# Altium integrated library Inductor - Power.IntLib: 264 symbols (part 4 of 5)
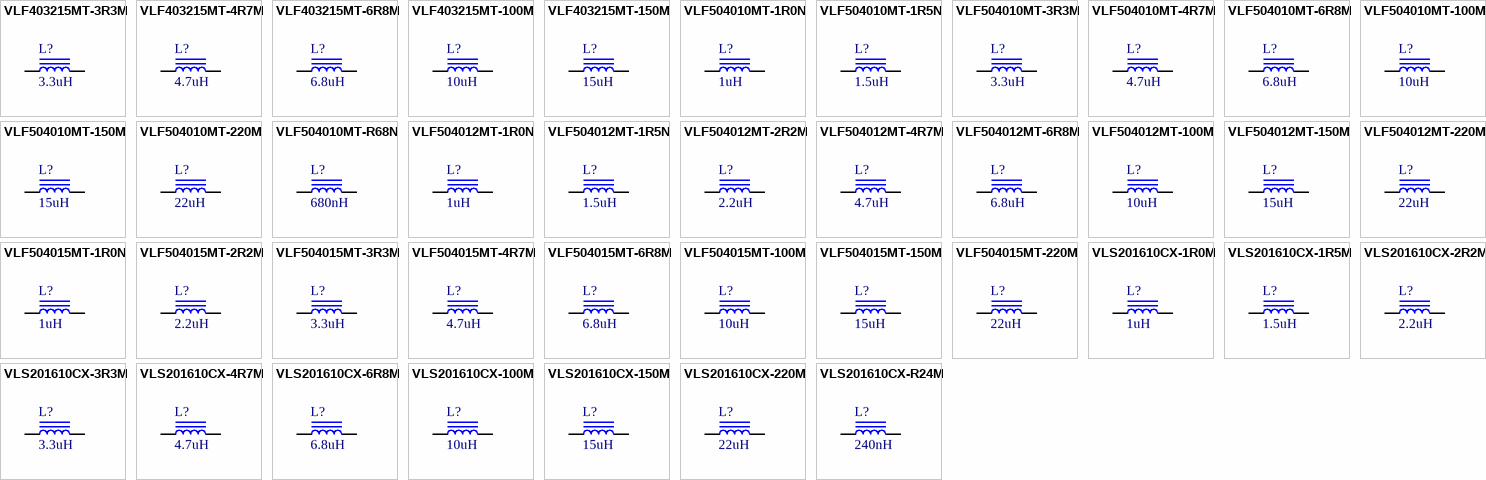
[diagram p9: symbols VLF403215MT-3R3M to VLS201610CX-R24M]

## VLF504012MT-6R8M
designator L?, comment 6.8uH
FIXED IND 6.8UH 1.77A 170 MOHM; Part Number: VLF504012MT-6R8M; Manufacturer: TDK Corporation; Type: Wirewound; Tolerance: 20%; Shielding: Shielded; DC Resistance (DCR): 170 mOhm Max; Value: 6.8uH; PartId: 9650; Supplier 1: Digi-Key; Supplier Part Number 1: 445-17206-2-ND; ComponentLink1Description: Datasheet; ComponentLink1URL: https://product.tdk.com/info/en/catalog/datasheets/inductor_commercial_power_vlf504012mt_en.pdf; ComponentLink2Description: Digi-Key Listing; ComponentLink2URL: https://www.digikey.com/product-detail/en/VLF504012MT-6R8M/445-17206-2-ND/4741721; Price: 0.8146; Device Package: Nonstandard; Series: VLF-M; Inductance: 6.8uH; Current Rating: 1.77A; Q @ Freq: -; Frequency - Self Resonant: -; Operating Temperature: -40C ~ 105C
footprint TDK VLF504012MT
pins: 1, 2

## VLF504012MT-100M
designator L?, comment 10uH
FIXED IND 10UH 1.3A 230 MOHM SMD; Part Number: VLF504012MT-100M; Manufacturer: TDK Corporation; Type: Wirewound; Tolerance: 20%; Shielding: Shielded; DC Resistance (DCR): 230 mOhm Max; Value: 10uH; PartId: 9651; Supplier 1: Digi-Key; Supplier Part Number 1: 445-17190-2-ND; ComponentLink1Description: Datasheet; ComponentLink1URL: https://product.tdk.com/info/en/catalog/datasheets/inductor_commercial_power_vlf504012mt_en.pdf; ComponentLink2Description: Digi-Key Listing; ComponentLink2URL: https://www.digikey.com/product-detail/en/VLF504012MT-100M/445-17190-2-ND/4741722; Price: 0.8146; Device Package: Nonstandard; Series: VLF-M; Inductance: 10uH; Current Rating: 1.3A; Q @ Freq: -; Frequency - Self Resonant: -; Operating Temperature: -40C ~ 105C
footprint TDK VLF504012MT
pins: 1, 2

## VLF504012MT-150M
designator L?, comment 15uH
FIXED IND 15UH 1.08A 320 MOHM; Part Number: VLF504012MT-150M; Manufacturer: TDK Corporation; Type: Wirewound; Tolerance: 20%; Shielding: Shielded; DC Resistance (DCR): 320 mOhm Max; Value: 15uH; PartId: 9648; Supplier 1: Digi-Key; Supplier Part Number 1: 445-17192-2-ND; ComponentLink1Description: Datasheet; ComponentLink1URL: https://product.tdk.com/info/en/catalog/datasheets/inductor_commercial_power_vlf504012mt_en.pdf; ComponentLink2Description: Digi-Key Listing; ComponentLink2URL: https://www.digikey.com/product-detail/en/VLF504012MT-150M/445-17192-2-ND/4741723; Price: 0.8146; Device Package: Nonstandard; Series: VLF-M; Inductance: 15uH; Current Rating: 1.08A; Q @ Freq: -; Frequency - Self Resonant: -; Operating Temperature: -40C ~ 105C
footprint TDK VLF504012MT
pins: 1, 2

## VLF504012MT-220M
designator L?, comment 22uH
FIXED IND 22UH 840MA 580 MOHM; Part Number: VLF504012MT-220M; Manufacturer: TDK Corporation; Type: Wirewound; Tolerance: 20%; Shielding: Shielded; DC Resistance (DCR): 580 mOhm Max; Value: 22uH; PartId: 9654; Supplier 1: Digi-Key; Supplier Part Number 1: 445-17198-2-ND; ComponentLink1Description: Datasheet; ComponentLink1URL: https://product.tdk.com/info/en/catalog/datasheets/inductor_commercial_power_vlf504012mt_en.pdf; ComponentLink2Description: Digi-Key Listing; ComponentLink2URL: https://www.digikey.com/product-detail/en/VLF504012MT-220M/445-17198-2-ND/4741724; Price: 0.8146; Device Package: Nonstandard; Series: VLF-M; Inductance: 22uH; Current Rating: 840mA; Q @ Freq: -; Frequency - Self Resonant: -; Operating Temperature: -40C ~ 105C
footprint TDK VLF504012MT
pins: 1, 2

## VLF504015MT-1R0N
designator L?, comment 1uH
FIXED IND 1UH 3.61A 32 MOHM SMD; Part Number: VLF504015MT-1R0N; Manufacturer: TDK Corporation; Type: Wirewound; Tolerance: 30%; Shielding: Shielded; DC Resistance (DCR): 32 mOhm Max; Value: 1uH; PartId: 9641; Supplier 1: Digi-Key; Supplier Part Number 1: 445-17212-2-ND; ComponentLink1Description: Datasheet; ComponentLink1URL: https://product.tdk.com/info/en/catalog/datasheets/inductor_commercial_power_vlf504015mt_en.pdf; ComponentLink2Description: Digi-Key Listing; ComponentLink2URL: https://www.digikey.com/product-detail/en/VLF504015MT-1R0N/445-17212-2-ND/4741734; Price: 0.8798; Device Package: Nonstandard; Series: VLF-M; Inductance: 1uH; Current Rating: 3.61A; Q @ Freq: -; Frequency - Self Resonant: -; Operating Temperature: -40C ~ 105C
footprint TDK VLF504015MT
pins: 1, 2

## VLF504015MT-2R2M
designator L?, comment 2.2uH
FIXED IND 2.2UH 2.6A 53 MOHM SMD; Part Number: VLF504015MT-2R2M; Manufacturer: TDK Corporation; Type: Wirewound; Tolerance: 20%; Shielding: Shielded; DC Resistance (DCR): 53 mOhm Max; Value: 2.2uH; PartId: 9646; Supplier 1: Digi-Key; Supplier Part Number 1: 445-17218-2-ND; ComponentLink1Description: Datasheet; ComponentLink1URL: https://product.tdk.com/info/en/catalog/datasheets/inductor_commercial_power_vlf504015mt_en.pdf; ComponentLink2Description: Digi-Key Listing; ComponentLink2URL: https://www.digikey.com/product-detail/en/VLF504015MT-2R2M/445-17218-2-ND/4741736; Price: 0.8798; Device Package: Nonstandard; Series: VLF-M; Inductance: 2.2uH; Current Rating: 2.6A; Q @ Freq: -; Frequency - Self Resonant: -; Operating Temperature: -40C ~ 105C
footprint TDK VLF504015MT
pins: 1, 2

## VLF504015MT-3R3M
designator L?, comment 3.3uH
FIXED IND 3.3UH 2.51A 63 MOHM; Part Number: VLF504015MT-3R3M; Manufacturer: TDK Corporation; Type: Wirewound; Tolerance: 20%; Shielding: Shielded; DC Resistance (DCR): 63 mOhm Max; Value: 3.3uH; PartId: 9643; Supplier 1: Digi-Key; Supplier Part Number 1: 445-17220-2-ND; ComponentLink1Description: Datasheet; ComponentLink1URL: https://product.tdk.com/info/en/catalog/datasheets/inductor_commercial_power_vlf504015mt_en.pdf; ComponentLink2Description: Digi-Key Listing; ComponentLink2URL: https://www.digikey.com/product-detail/en/VLF504015MT-3R3M/445-17220-2-ND/4741737; Price: 0.8798; Device Package: Nonstandard; Series: VLF-M; Inductance: 3.3uH; Current Rating: 2.51A; Q @ Freq: -; Frequency - Self Resonant: -; Operating Temperature: -40C ~ 105C
footprint TDK VLF504015MT
pins: 1, 2

## VLF504015MT-4R7M
designator L?, comment 4.7uH
FIXED IND 4.7UH 2.43A 70 MOHM; Part Number: VLF504015MT-4R7M; Manufacturer: TDK Corporation; Type: Wirewound; Tolerance: 20%; Shielding: Shielded; DC Resistance (DCR): 70 mOhm Max; Value: 4.7uH; PartId: 9640; Supplier 1: Digi-Key; Supplier Part Number 1: 445-17222-2-ND; ComponentLink1Description: Datasheet; ComponentLink1URL: https://product.tdk.com/info/en/catalog/datasheets/inductor_commercial_power_vlf504015mt_en.pdf; ComponentLink2Description: Digi-Key Listing; ComponentLink2URL: https://www.digikey.com/product-detail/en/VLF504015MT-4R7M/445-17222-2-ND/4741738; Price: 0.8798; Device Package: Nonstandard; Series: VLF-M; Inductance: 4.7uH; Current Rating: 2.43A; Q @ Freq: -; Frequency - Self Resonant: -; Operating Temperature: -40C ~ 105C
footprint TDK VLF504015MT
pins: 1, 2

## VLF504015MT-6R8M
designator L?, comment 6.8uH
FIXED IND 6.8UH 2A 100 MOHM SMD; Part Number: VLF504015MT-6R8M; Manufacturer: TDK Corporation; Type: Wirewound; Tolerance: 20%; Shielding: Shielded; DC Resistance (DCR): 100 mOhm Max; Value: 6.8uH; PartId: 9642; Supplier 1: Digi-Key; Supplier Part Number 1: 445-17224-2-ND; ComponentLink1Description: Datasheet; ComponentLink1URL: https://product.tdk.com/info/en/catalog/datasheets/inductor_commercial_power_vlf504015mt_en.pdf; ComponentLink2Description: Digi-Key Listing; ComponentLink2URL: https://www.digikey.com/product-detail/en/VLF504015MT-6R8M/445-17224-2-ND/4741739; Price: 0.8798; Device Package: Nonstandard; Series: VLF-M; Inductance: 6.8uH; Current Rating: 2A; Q @ Freq: -; Frequency - Self Resonant: -; Operating Temperature: -40C ~ 105C
footprint TDK VLF504015MT
pins: 1, 2

## VLF504015MT-100M
designator L?, comment 10uH
FIXED IND 10UH 1.58A 140 MOHM; Part Number: VLF504015MT-100M; Manufacturer: TDK Corporation; Type: Wirewound; Tolerance: 20%; Shielding: Shielded; DC Resistance (DCR): 140 mOhm Max; Value: 10uH; PartId: 9639; Supplier 1: Digi-Key; Supplier Part Number 1: 445-17208-2-ND; ComponentLink1Description: Datasheet; ComponentLink1URL: https://product.tdk.com/info/en/catalog/datasheets/inductor_commercial_power_vlf504015mt_en.pdf; ComponentLink2Description: Digi-Key Listing; ComponentLink2URL: https://www.digikey.com/product-detail/en/VLF504015MT-100M/445-17208-2-ND/4741740; Price: 0.8798; Device Package: Nonstandard; Series: VLF-M; Inductance: 10uH; Current Rating: 1.58A; Q @ Freq: -; Frequency - Self Resonant: -; Operating Temperature: -40C ~ 105C
footprint TDK VLF504015MT
pins: 1, 2

## VLF504015MT-150M
designator L?, comment 15uH
FIXED IND 15UH 1.37A 220 MOHM; Part Number: VLF504015MT-150M; Manufacturer: TDK Corporation; Type: Wirewound; Tolerance: 20%; Shielding: Shielded; DC Resistance (DCR): 220 mOhm Max; Value: 15uH; PartId: 9644; Supplier 1: Digi-Key; Supplier Part Number 1: 445-17210-2-ND; ComponentLink1Description: Datasheet; ComponentLink1URL: https://product.tdk.com/info/en/catalog/datasheets/inductor_commercial_power_vlf504015mt_en.pdf; ComponentLink2Description: Digi-Key Listing; ComponentLink2URL: https://www.digikey.com/product-detail/en/VLF504015MT-150M/445-17210-2-ND/4741741; Price: 0.8798; Device Package: Nonstandard; Series: VLF-M; Inductance: 15uH; Current Rating: 1.37A; Q @ Freq: -; Frequency - Self Resonant: -; Operating Temperature: -40C ~ 105C
footprint TDK VLF504015MT
pins: 1, 2

## VLF504015MT-220M
designator L?, comment 22uH
FIXED IND 22UH 1.08A 310 MOHM; Part Number: VLF504015MT-220M; Manufacturer: TDK Corporation; Type: Wirewound; Tolerance: 20%; Shielding: Shielded; DC Resistance (DCR): 310 mOhm Max; Value: 22uH; PartId: 9645; Supplier 1: Digi-Key; Supplier Part Number 1: 445-17216-2-ND; ComponentLink1Description: Datasheet; ComponentLink1URL: https://product.tdk.com/info/en/catalog/datasheets/inductor_commercial_power_vlf504015mt_en.pdf; ComponentLink2Description: Digi-Key Listing; ComponentLink2URL: https://www.digikey.com/product-detail/en/VLF504015MT-220M/445-17216-2-ND/4741742; Price: 0.8798; Device Package: Nonstandard; Series: VLF-M; Inductance: 22uH; Current Rating: 1.08A; Q @ Freq: -; Frequency - Self Resonant: -; Operating Temperature: -40C ~ 105C
footprint TDK VLF504015MT
pins: 1, 2

## VLS201610CX-1R0M
designator L?, comment 1uH
FIXED IND 1UH 2.14A 66 MOHM SMD; Part Number: VLS201610CX-1R0M; Manufacturer: TDK Corporation; Type: Wirewound; Tolerance: 20%; Shielding: Shielded; DC Resistance (DCR): 66 mOhm Max; Value: 1uH; PartId: 9412; Supplier 1: Digi-Key; Supplier Part Number 1: 445-172948-2-ND; ComponentLink1Description: Datasheet; ComponentLink1URL: https://product.tdk.com/info/en/catalog/datasheets/inductor_commercial_power_vls201610cx_en.pdf; ComponentLink2Description: Digi-Key Listing; ComponentLink2URL: https://www.digikey.com/product-detail/en/VLS201610CX-1R0M/445-172948-2-ND/5169753; Price: 0.1549; Device Package: Nonstandard; Series: VLS-CX; Inductance: 1uH; Current Rating: 2.14A; Q @ Freq: -; Frequency - Self Resonant: -; Operating Temperature: -40C ~ 105C
footprint TDK VLS201612CX
pins: 1, 2

## VLS201610CX-1R5M
designator L?, comment 1.5uH
FIXED IND 1.5UH 1.74A 126 MOHM; Part Number: VLS201610CX-1R5M; Manufacturer: TDK Corporation; Type: Wirewound; Tolerance: 20%; Shielding: Shielded; DC Resistance (DCR): 126 mOhm Max; Value: 1.5uH; PartId: 9415; Supplier 1: Digi-Key; Supplier Part Number 1: 445-172949-2-ND; ComponentLink1Description: Datasheet; ComponentLink1URL: https://product.tdk.com/info/en/catalog/datasheets/inductor_commercial_power_vls201610cx_en.pdf; ComponentLink2Description: Digi-Key Listing; ComponentLink2URL: https://www.digikey.com/product-detail/en/VLS201610CX-1R5M/445-172949-2-ND/5169754; Price: 0.1549; Device Package: Nonstandard; Series: VLS-CX; Inductance: 1.5uH; Current Rating: 1.74A; Q @ Freq: -; Frequency - Self Resonant: -; Operating Temperature: -40C ~ 105C
footprint TDK VLS201612CX
pins: 1, 2

## VLS201610CX-2R2M
designator L?, comment 2.2uH
FIXED IND 2.2UH 1.53A 163 MOHM; Part Number: VLS201610CX-2R2M; Manufacturer: TDK Corporation; Type: Wirewound; Tolerance: 20%; Shielding: Shielded; DC Resistance (DCR): 163 mOhm Max; Value: 2.2uH; PartId: 9421; Supplier 1: Digi-Key; Supplier Part Number 1: 445-172951-2-ND; ComponentLink1Description: Datasheet; ComponentLink1URL: https://product.tdk.com/info/en/catalog/datasheets/inductor_commercial_power_vls201610cx_en.pdf; ComponentLink2Description: Digi-Key Listing; ComponentLink2URL: https://www.digikey.com/product-detail/en/VLS201610CX-2R2M/445-172951-2-ND/5169756; Price: 0.1549; Device Package: Nonstandard; Series: VLS-CX; Inductance: 2.2uH; Current Rating: 1.53A; Q @ Freq: -; Frequency - Self Resonant: -; Operating Temperature: -40C ~ 105C
footprint TDK VLS201612CX
pins: 1, 2

## VLS201610CX-3R3M
designator L?, comment 3.3uH
FIXED IND 3.3UH 1.2A 253 MOHM; Part Number: VLS201610CX-3R3M; Manufacturer: TDK Corporation; Type: Wirewound; Tolerance: 20%; Shielding: Shielded; DC Resistance (DCR): 253 mOhm Max; Value: 3.3uH; PartId: 9424; Supplier 1: Digi-Key; Supplier Part Number 1: 445-172952-2-ND; ComponentLink1Description: Datasheet; ComponentLink1URL: https://product.tdk.com/info/en/catalog/datasheets/inductor_commercial_power_vls201610cx_en.pdf; ComponentLink2Description: Digi-Key Listing; ComponentLink2URL: https://www.digikey.com/product-detail/en/VLS201610CX-3R3M/445-172952-2-ND/5169757; Price: 0.1549; Device Package: Nonstandard; Series: VLS-CX; Inductance: 3.3uH; Current Rating: 1.2A; Q @ Freq: -; Frequency - Self Resonant: -; Operating Temperature: -40C ~ 105C
footprint TDK VLS201612CX
pins: 1, 2

## VLS201610CX-4R7M
designator L?, comment 4.7uH
FIXED IND 4.7UH 1A 365 MOHM SMD; Part Number: VLS201610CX-4R7M; Manufacturer: TDK Corporation; Type: Wirewound; Tolerance: 20%; Shielding: Shielded; DC Resistance (DCR): 365 mOhm Max; Value: 4.7uH; PartId: 9406; Supplier 1: Digi-Key; Supplier Part Number 1: 445-172953-2-ND; ComponentLink1Description: Datasheet; ComponentLink1URL: https://product.tdk.com/info/en/catalog/datasheets/inductor_commercial_power_vls201610cx_en.pdf; ComponentLink2Description: Digi-Key Listing; ComponentLink2URL: https://www.digikey.com/product-detail/en/VLS201610CX-4R7M/445-172953-2-ND/5169758; Price: 0.1549; Device Package: Nonstandard; Series: VLS-CX; Inductance: 4.7uH; Current Rating: 1A; Q @ Freq: -; Frequency - Self Resonant: -; Operating Temperature: -40C ~ 105C
footprint TDK VLS201612CX
pins: 1, 2

## VLS201610CX-6R8M
designator L?, comment 6.8uH
FIXED IND 6.8UH 790MA 582 MOHM; Part Number: VLS201610CX-6R8M; Manufacturer: TDK Corporation; Type: Wirewound; Tolerance: 20%; Shielding: Shielded; DC Resistance (DCR): 582 mOhm Max; Value: 6.8uH; PartId: 9427; Supplier 1: Digi-Key; Supplier Part Number 1: 445-172954-2-ND; ComponentLink1Description: Datasheet; ComponentLink1URL: https://product.tdk.com/info/en/catalog/datasheets/inductor_commercial_power_vls201610cx_en.pdf; ComponentLink2Description: Digi-Key Listing; ComponentLink2URL: https://www.digikey.com/product-detail/en/VLS201610CX-6R8M/445-172954-2-ND/5169759; Price: 0.1549; Device Package: Nonstandard; Series: VLS-CX; Inductance: 6.8uH; Current Rating: 790mA; Q @ Freq: -; Frequency - Self Resonant: -; Operating Temperature: -40C ~ 105C
footprint TDK VLS201612CX
pins: 1, 2

## VLS201610CX-100M
designator L?, comment 10uH
FIXED IND 10UH 710MA 732 MOHM; Part Number: VLS201610CX-100M; Manufacturer: TDK Corporation; Type: Wirewound; Tolerance: 20%; Shielding: Shielded; DC Resistance (DCR): 732 mOhm Max; Value: 10uH; PartId: 9403; Supplier 1: Digi-Key; Supplier Part Number 1: 445-172946-2-ND; ComponentLink1Description: Datasheet; ComponentLink1URL: https://product.tdk.com/info/en/catalog/datasheets/inductor_commercial_power_vls201610cx_en.pdf; ComponentLink2Description: Digi-Key Listing; ComponentLink2URL: https://www.digikey.com/product-detail/en/VLS201610CX-100M/445-172946-2-ND/5169751; Price: 0.1549; Device Package: Nonstandard; Series: VLS-CX; Inductance: 10uH; Current Rating: 710mA; Q @ Freq: -; Frequency - Self Resonant: -; Operating Temperature: -40C ~ 105C
footprint TDK VLS201612CX
pins: 1, 2

## VLS201610CX-150M
designator L?, comment 15uH
FIXED IND 15UH 540MA 1.258 OHM; Part Number: VLS201610CX-150M; Manufacturer: TDK Corporation; Type: Wirewound; Tolerance: 20%; Shielding: Shielded; DC Resistance (DCR): 1.258 Ohm Max; Value: 15uH; PartId: 9409; Supplier 1: Digi-Key; Supplier Part Number 1: 445-172947-2-ND; ComponentLink1Description: Datasheet; ComponentLink1URL: https://product.tdk.com/info/en/catalog/datasheets/inductor_commercial_power_vls201610cx_en.pdf; ComponentLink2Description: Digi-Key Listing; ComponentLink2URL: https://www.digikey.com/product-detail/en/VLS201610CX-150M/445-172947-2-ND/5169752; Price: 0.1549; Device Package: Nonstandard; Series: VLS-CX; Inductance: 15uH; Current Rating: 540mA; Q @ Freq: -; Frequency - Self Resonant: -; Operating Temperature: -40C ~ 105C
footprint TDK VLS201612CX
pins: 1, 2

## VLS201610CX-220M
designator L?, comment 22uH
FIXED IND 22UH 480MA 1.582 OHM; Part Number: VLS201610CX-220M; Manufacturer: TDK Corporation; Type: Wirewound; Tolerance: 20%; Shielding: Shielded; DC Resistance (DCR): 1.582 Ohm Max; Value: 22uH; PartId: 9418; Supplier 1: Digi-Key; Supplier Part Number 1: 445-172950-2-ND; ComponentLink1Description: Datasheet; ComponentLink1URL: https://product.tdk.com/info/en/catalog/datasheets/inductor_commercial_power_vls201610cx_en.pdf; ComponentLink2Description: Digi-Key Listing; ComponentLink2URL: https://www.digikey.com/product-detail/en/VLS201610CX-220M/445-172950-2-ND/5169755; Price: 0.1549; Device Package: Nonstandard; Series: VLS-CX; Inductance: 22uH; Current Rating: 480mA; Q @ Freq: -; Frequency - Self Resonant: -; Operating Temperature: -40C ~ 105C
footprint TDK VLS201612CX
pins: 1, 2

## VLS201610CX-R24M
designator L?, comment 240nH
FIXED IND 240NH 3.08A 40 MOHM; Part Number: VLS201610CX-R24M; Manufacturer: TDK Corporation; Type: Wirewound; Tolerance: 20%; Shielding: Shielded; DC Resistance (DCR): 40 mOhm Max; Value: 240nH; PartId: 9460; Supplier 1: Digi-Key; Supplier Part Number 1: 445-172955-2-ND; ComponentLink1Description: Datasheet; ComponentLink1URL: https://product.tdk.com/info/en/catalog/datasheets/inductor_commercial_power_vls201610cx_en.pdf; ComponentLink2Description: Digi-Key Listing; ComponentLink2URL: https://www.digikey.com/product-detail/en/VLS201610CX-R24M/445-172955-2-ND/5169760; Price: 0.1549; Device Package: Nonstandard; Series: VLS-CX; Inductance: 240nH; Current Rating: 3.08A; Q @ Freq: -; Frequency - Self Resonant: -; Operating Temperature: -40C ~ 105C
footprint TDK VLS201612CX
pins: 1, 2

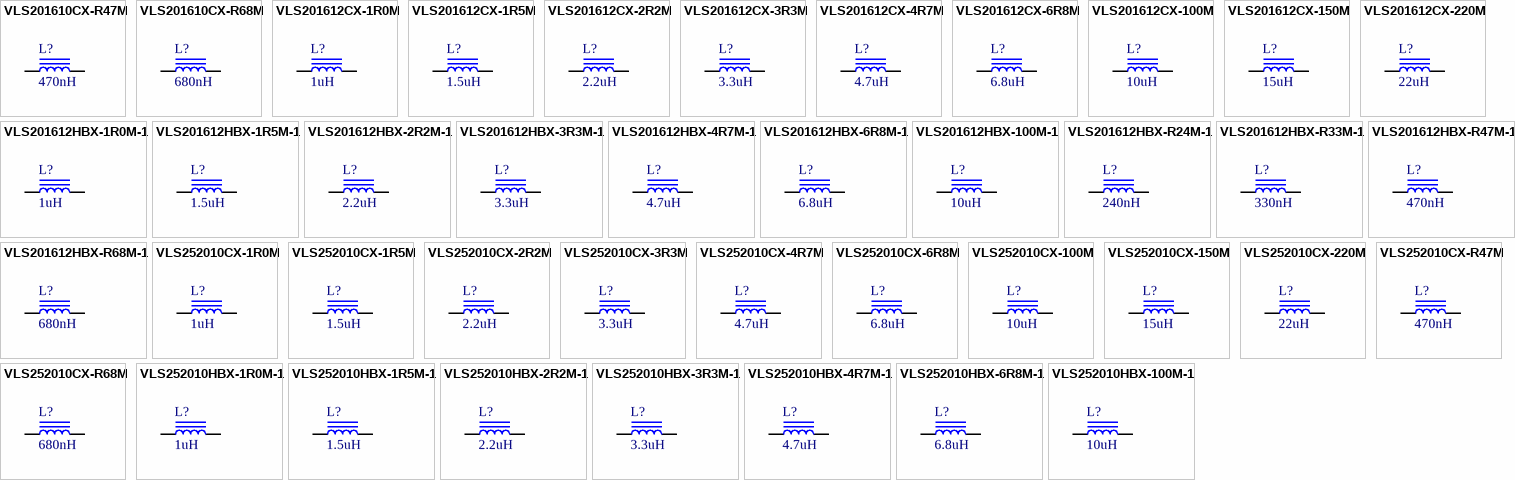
[diagram p5: symbols VLS201610CX-R47M to VLS252010HBX-100M-1]

## VLS201610CX-R47M
designator L?, comment 470nH
FIXED IND 470NH 2.69A 50 MOHM; Part Number: VLS201610CX-R47M; Manufacturer: TDK Corporation; Type: Wirewound; Tolerance: 20%; Shielding: Shielded; DC Resistance (DCR): 50 mOhm Max; Value: 470nH; PartId: 9430; Supplier 1: Digi-Key; Supplier Part Number 1: 445-172956-2-ND; ComponentLink1Description: Datasheet; ComponentLink1URL: https://product.tdk.com/info/en/catalog/datasheets/inductor_commercial_power_vls201610cx_en.pdf; ComponentLink2Description: Digi-Key Listing; ComponentLink2URL: https://www.digikey.com/product-detail/en/VLS201610CX-R47M/445-172956-2-ND/5169761; Price: 0.1549; Device Package: Nonstandard; Series: VLS-CX; Inductance: 470nH; Current Rating: 2.69A; Q @ Freq: -; Frequency - Self Resonant: -; Operating Temperature: -40C ~ 105C
footprint TDK VLS201612CX
pins: 1, 2

## VLS201610CX-R68M
designator L?, comment 680nH
FIXED IND 680NH 2.19A 76 MOHM; Part Number: VLS201610CX-R68M; Manufacturer: TDK Corporation; Type: Wirewound; Tolerance: 20%; Shielding: Shielded; DC Resistance (DCR): 76 mOhm Max; Value: 680nH; PartId: 9433; Supplier 1: Digi-Key; Supplier Part Number 1: 445-172957-2-ND; ComponentLink1Description: Datasheet; ComponentLink1URL: https://product.tdk.com/info/en/catalog/datasheets/inductor_commercial_power_vls201610cx_en.pdf; ComponentLink2Description: Digi-Key Listing; ComponentLink2URL: https://www.digikey.com/product-detail/en/VLS201610CX-R68M/445-172957-2-ND/5169762; Price: 0.1549; Device Package: Nonstandard; Series: VLS-CX; Inductance: 680nH; Current Rating: 2.19A; Q @ Freq: -; Frequency - Self Resonant: -; Operating Temperature: -40C ~ 105C
footprint TDK VLS201612CX
pins: 1, 2

## VLS201612CX-1R0M
designator L?, comment 1uH
FIXED IND 1UH 2.16A 68 MOHM SMD; Part Number: VLS201612CX-1R0M; Manufacturer: TDK Corporation; Type: Wirewound; Tolerance: 20%; Shielding: Shielded; DC Resistance (DCR): 68 mOhm Max; Value: 1uH; PartId: 9442; Supplier 1: Digi-Key; Supplier Part Number 1: 445-172960-2-ND; ComponentLink1Description: Datasheet; ComponentLink1URL: https://product.tdk.com/info/en/catalog/datasheets/inductor_commercial_power_vls201612cx_en.pdf; ComponentLink2Description: Digi-Key Listing; ComponentLink2URL: https://www.digikey.com/product-detail/en/VLS201612CX-1R0M/445-172960-2-ND/5169765; Price: 0.1549; Device Package: Nonstandard; Series: VLS-CX; Inductance: 1uH; Current Rating: 2.16A; Q @ Freq: -; Frequency - Self Resonant: -; Operating Temperature: -40C ~ 105C
footprint TDK VLS201612CX
pins: 1, 2

## VLS201612CX-1R5M
designator L?, comment 1.5uH
FIXED IND 1.5UH 1.9A 89 MOHM SMD; Part Number: VLS201612CX-1R5M; Manufacturer: TDK Corporation; Type: Wirewound; Tolerance: 20%; Shielding: Shielded; DC Resistance (DCR): 89 mOhm Max; Value: 1.5uH; PartId: 9445; Supplier 1: Digi-Key; Supplier Part Number 1: 445-172961-2-ND; ComponentLink1Description: Datasheet; ComponentLink1URL: https://product.tdk.com/info/en/catalog/datasheets/inductor_commercial_power_vls201612cx_en.pdf; ComponentLink2Description: Digi-Key Listing; ComponentLink2URL: https://www.digikey.com/product-detail/en/VLS201612CX-1R5M/445-172961-2-ND/5169766; Price: 0.1549; Device Package: Nonstandard; Series: VLS-CX; Inductance: 1.5uH; Current Rating: 1.9A; Q @ Freq: -; Frequency - Self Resonant: -; Operating Temperature: -40C ~ 105C
footprint TDK VLS201612CX
pins: 1, 2

## VLS201612CX-2R2M
designator L?, comment 2.2uH
FIXED IND 2.2UH 1.5A 140 MOHM; Part Number: VLS201612CX-2R2M; Manufacturer: TDK Corporation; Type: Wirewound; Tolerance: 20%; Shielding: Shielded; DC Resistance (DCR): 140 mOhm Max; Value: 2.2uH; PartId: 9451; Supplier 1: Digi-Key; Supplier Part Number 1: 445-172963-2-ND; ComponentLink1Description: Datasheet; ComponentLink1URL: https://product.tdk.com/info/en/catalog/datasheets/inductor_commercial_power_vls201612cx_en.pdf; ComponentLink2Description: Digi-Key Listing; ComponentLink2URL: https://www.digikey.com/product-detail/en/VLS201612CX-2R2M/445-172963-2-ND/5169768; Price: 0.1549; Device Package: Nonstandard; Series: VLS-CX; Inductance: 2.2uH; Current Rating: 1.5A; Q @ Freq: -; Frequency - Self Resonant: -; Operating Temperature: -40C ~ 105C
footprint TDK VLS201612CX
pins: 1, 2

## VLS201612CX-3R3M
designator L?, comment 3.3uH
FIXED IND 3.3UH 1.37A 170 MOHM; Part Number: VLS201612CX-3R3M; Manufacturer: TDK Corporation; Type: Wirewound; Tolerance: 20%; Shielding: Shielded; DC Resistance (DCR): 170 mOhm Max; Value: 3.3uH; PartId: 9454; Supplier 1: Digi-Key; Supplier Part Number 1: 445-172964-2-ND; ComponentLink1Description: Datasheet; ComponentLink1URL: https://product.tdk.com/info/en/catalog/datasheets/inductor_commercial_power_vls201612cx_en.pdf; ComponentLink2Description: Digi-Key Listing; ComponentLink2URL: https://www.digikey.com/product-detail/en/VLS201612CX-3R3M/445-172964-2-ND/5169769; Price: 0.1549; Device Package: Nonstandard; Series: VLS-CX; Inductance: 3.3uH; Current Rating: 1.37A; Q @ Freq: -; Frequency - Self Resonant: -; Operating Temperature: -40C ~ 105C
footprint TDK VLS201612CX
pins: 1, 2

## VLS201612CX-4R7M
designator L?, comment 4.7uH
FIXED IND 4.7UH 1.12A 252 MOHM; Part Number: VLS201612CX-4R7M; Manufacturer: TDK Corporation; Type: Wirewound; Tolerance: 20%; Shielding: Shielded; DC Resistance (DCR): 252 mOhm Max; Value: 4.7uH; PartId: 9400; Supplier 1: Digi-Key; Supplier Part Number 1: 445-172965-2-ND; ComponentLink1Description: Datasheet; ComponentLink1URL: https://product.tdk.com/info/en/catalog/datasheets/inductor_commercial_power_vls201612cx_en.pdf; ComponentLink2Description: Digi-Key Listing; ComponentLink2URL: https://www.digikey.com/product-detail/en/VLS201612CX-4R7M/445-172965-2-ND/5169770; Price: 0.1549; Device Package: Nonstandard; Series: VLS-CX; Inductance: 4.7uH; Current Rating: 1.12A; Q @ Freq: -; Frequency - Self Resonant: -; Operating Temperature: -40C ~ 105C
footprint TDK VLS201612CX
pins: 1, 2

## VLS201612CX-6R8M
designator L?, comment 6.8uH
FIXED IND 6.8UH 930MA 368 MOHM; Part Number: VLS201612CX-6R8M; Manufacturer: TDK Corporation; Type: Wirewound; Tolerance: 20%; Shielding: Shielded; DC Resistance (DCR): 368 mOhm Max; Value: 6.8uH; PartId: 9457; Supplier 1: Digi-Key; Supplier Part Number 1: 445-172966-2-ND; ComponentLink1Description: Datasheet; ComponentLink1URL: https://product.tdk.com/info/en/catalog/datasheets/inductor_commercial_power_vls201612cx_en.pdf; ComponentLink2Description: Digi-Key Listing; ComponentLink2URL: https://www.digikey.com/product-detail/en/VLS201612CX-6R8M/445-172966-2-ND/5169771; Price: 0.1549; Device Package: Nonstandard; Series: VLS-CX; Inductance: 6.8uH; Current Rating: 930mA; Q @ Freq: -; Frequency - Self Resonant: -; Operating Temperature: -40C ~ 105C
footprint TDK VLS201612CX
pins: 1, 2

## VLS201612CX-100M
designator L?, comment 10uH
FIXED IND 10UH 770MA 540 MOHM; Part Number: VLS201612CX-100M; Manufacturer: TDK Corporation; Type: Wirewound; Tolerance: 20%; Shielding: Shielded; DC Resistance (DCR): 540 mOhm Max; Value: 10uH; PartId: 9436; Supplier 1: Digi-Key; Supplier Part Number 1: 445-172958-2-ND; ComponentLink1Description: Datasheet; ComponentLink1URL: https://product.tdk.com/info/en/catalog/datasheets/inductor_commercial_power_vls201612cx_en.pdf; ComponentLink2Description: Digi-Key Listing; ComponentLink2URL: https://www.digikey.com/product-detail/en/VLS201612CX-100M/445-172958-2-ND/5169763; Price: 0.1549; Device Package: Nonstandard; Series: VLS-CX; Inductance: 10uH; Current Rating: 770mA; Q @ Freq: -; Frequency - Self Resonant: -; Operating Temperature: -40C ~ 105C
footprint TDK VLS201612CX
pins: 1, 2

## VLS201612CX-150M
designator L?, comment 15uH
FIXED IND 15UH 590MA 913 MOHM; Part Number: VLS201612CX-150M; Manufacturer: TDK Corporation; Type: Wirewound; Tolerance: 20%; Shielding: Shielded; DC Resistance (DCR): 913 mOhm Max; Value: 15uH; PartId: 9439; Supplier 1: Digi-Key; Supplier Part Number 1: 445-172959-2-ND; ComponentLink1Description: Datasheet; ComponentLink1URL: https://product.tdk.com/info/en/catalog/datasheets/inductor_commercial_power_vls201612cx_en.pdf; ComponentLink2Description: Digi-Key Listing; ComponentLink2URL: https://www.digikey.com/product-detail/en/VLS201612CX-150M/445-172959-2-ND/5169764; Price: 0.1549; Device Package: Nonstandard; Series: VLS-CX; Inductance: 15uH; Current Rating: 590mA; Q @ Freq: -; Frequency - Self Resonant: -; Operating Temperature: -40C ~ 105C
footprint TDK VLS201612CX
pins: 1, 2

## VLS201612CX-220M
designator L?, comment 22uH
FIXED IND 22UH 480MA 1.32 OHM; Part Number: VLS201612CX-220M; Manufacturer: TDK Corporation; Type: Wirewound; Tolerance: 20%; Shielding: Shielded; DC Resistance (DCR): 1.32 Ohm Max; Value: 22uH; PartId: 9448; Supplier 1: Digi-Key; Supplier Part Number 1: 445-172962-2-ND; ComponentLink1Description: Datasheet; ComponentLink1URL: https://product.tdk.com/info/en/catalog/datasheets/inductor_commercial_power_vls201612cx_en.pdf; ComponentLink2Description: Digi-Key Listing; ComponentLink2URL: https://www.digikey.com/product-detail/en/VLS201612CX-220M/445-172962-2-ND/5169767; Price: 0.1549; Device Package: Nonstandard; Series: VLS-CX; Inductance: 22uH; Current Rating: 480mA; Q @ Freq: -; Frequency - Self Resonant: -; Operating Temperature: -40C ~ 105C
footprint TDK VLS201612CX
pins: 1, 2

## VLS201612HBX-1R0M-1
designator L?, comment 1uH
FIXED IND 1UH 2.7A 72 MOHM SMD; Part Number: VLS201612HBX-1R0M-1; Manufacturer: TDK Corporation; Type: Wirewound; Tolerance: 20%; Shielding: Shielded; DC Resistance (DCR): 72 mOhm Max; Value: 1uH; PartId: 9390; Supplier 1: Digi-Key; Supplier Part Number 1: 445-173010-2-ND; ComponentLink1Description: Datasheet; ComponentLink1URL: https://product.tdk.com/info/en/catalog/datasheets/inductor_commercial_power_vls201612hbx-1_en.pdf; ComponentLink2Description: Digi-Key Listing; ComponentLink2URL: https://www.digikey.com/product-detail/en/VLS201612HBX-1R0M-1/445-173010-2-ND/5147048; Price: 0.258; Device Package: 0806 (2016 Metric); Series: VLS-HBX-1; Inductance: 1uH; Current Rating: 2.7A; Q @ Freq: -; Frequency - Self Resonant: -; Operating Temperature: -40C ~ 105C
footprint TDK VLS201612HBX-1
pins: 1, 2

## VLS201612HBX-1R5M-1
designator L?, comment 1.5uH
FIXED IND 1.5UH 2.16A 109 MOHM; Part Number: VLS201612HBX-1R5M-1; Manufacturer: TDK Corporation; Type: Wirewound; Tolerance: 20%; Shielding: Shielded; DC Resistance (DCR): 109 mOhm Max; Value: 1.5uH; PartId: 9391; Supplier 1: Digi-Key; Supplier Part Number 1: 445-173011-2-ND; ComponentLink1Description: Datasheet; ComponentLink1URL: https://product.tdk.com/info/en/catalog/datasheets/inductor_commercial_power_vls201612hbx-1_en.pdf; ComponentLink2Description: Digi-Key Listing; ComponentLink2URL: https://www.digikey.com/product-detail/en/VLS201612HBX-1R5M-1/445-173011-2-ND/5147049; Price: 0.258; Device Package: 0806 (2016 Metric); Series: VLS-HBX-1; Inductance: 1.5uH; Current Rating: 2.16A; Q @ Freq: -; Frequency - Self Resonant: -; Operating Temperature: -40C ~ 105C
footprint TDK VLS201612HBX-1
pins: 1, 2

## VLS201612HBX-2R2M-1
designator L?, comment 2.2uH
FIXED IND 2.2UH 1.85A 137 MOHM; Part Number: VLS201612HBX-2R2M-1; Manufacturer: TDK Corporation; Type: Wirewound; Tolerance: 20%; Shielding: Shielded; DC Resistance (DCR): 137 mOhm Max; Value: 2.2uH; PartId: 9392; Supplier 1: Digi-Key; Supplier Part Number 1: 445-173012-2-ND; ComponentLink1Description: Datasheet; ComponentLink1URL: https://product.tdk.com/info/en/catalog/datasheets/inductor_commercial_power_vls201612hbx-1_en.pdf; ComponentLink2Description: Digi-Key Listing; ComponentLink2URL: https://www.digikey.com/product-detail/en/VLS201612HBX-2R2M-1/445-173012-2-ND/5147050; Price: 0.258; Device Package: 0806 (2016 Metric); Series: VLS-HBX-1; Inductance: 2.2uH; Current Rating: 1.85A; Q @ Freq: -; Frequency - Self Resonant: -; Operating Temperature: -40C ~ 105C
footprint TDK VLS201612HBX-1
pins: 1, 2

## VLS201612HBX-3R3M-1
designator L?, comment 3.3uH
FIXED IND 3.3UH 1.38A 209 MOHM; Part Number: VLS201612HBX-3R3M-1; Manufacturer: TDK Corporation; Type: Wirewound; Tolerance: 20%; Shielding: Shielded; DC Resistance (DCR): 209 mOhm Max; Value: 3.3uH; PartId: 9393; Supplier 1: Digi-Key; Supplier Part Number 1: 445-173013-2-ND; ComponentLink1Description: Datasheet; ComponentLink1URL: https://product.tdk.com/info/en/catalog/datasheets/inductor_commercial_power_vls201612hbx-1_en.pdf; ComponentLink2Description: Digi-Key Listing; ComponentLink2URL: https://www.digikey.com/product-detail/en/VLS201612HBX-3R3M-1/445-173013-2-ND/5147051; Price: 0.258; Device Package: 0806 (2016 Metric); Series: VLS-HBX-1; Inductance: 3.3uH; Current Rating: 1.38A; Q @ Freq: -; Frequency - Self Resonant: -; Operating Temperature: -40C ~ 105C
footprint TDK VLS201612HBX-1
pins: 1, 2

## VLS201612HBX-4R7M-1
designator L?, comment 4.7uH
FIXED IND 4.7UH 1.2A 312 MOHM; Part Number: VLS201612HBX-4R7M-1; Manufacturer: TDK Corporation; Type: Wirewound; Tolerance: 20%; Shielding: Shielded; DC Resistance (DCR): 312 mOhm Max; Value: 4.7uH; PartId: 9394; Supplier 1: Digi-Key; Supplier Part Number 1: 445-173014-2-ND; ComponentLink1Description: Datasheet; ComponentLink1URL: https://product.tdk.com/info/en/catalog/datasheets/inductor_commercial_power_vls201612hbx-1_en.pdf; ComponentLink2Description: Digi-Key Listing; ComponentLink2URL: https://www.digikey.com/product-detail/en/VLS201612HBX-4R7M-1/445-173014-2-ND/5147052; Price: 0.258; Device Package: 0806 (2016 Metric); Series: VLS-HBX-1; Inductance: 4.7uH; Current Rating: 1.2A; Q @ Freq: -; Frequency - Self Resonant: -; Operating Temperature: -40C ~ 105C
footprint TDK VLS201612HBX-1
pins: 1, 2

## VLS201612HBX-6R8M-1
designator L?, comment 6.8uH
FIXED IND 6.8UH 910MA 468 MOHM; Part Number: VLS201612HBX-6R8M-1; Manufacturer: TDK Corporation; Type: Wirewound; Tolerance: 20%; Shielding: Shielded; DC Resistance (DCR): 468 mOhm Max; Value: 6.8uH; PartId: 9395; Supplier 1: Digi-Key; Supplier Part Number 1: 445-173015-2-ND; ComponentLink1Description: Datasheet; ComponentLink1URL: https://product.tdk.com/info/en/catalog/datasheets/inductor_commercial_power_vls201612hbx-1_en.pdf; ComponentLink2Description: Digi-Key Listing; ComponentLink2URL: https://www.digikey.com/product-detail/en/VLS201612HBX-6R8M-1/445-173015-2-ND/5147053; Price: 0.258; Device Package: 0806 (2016 Metric); Series: VLS-HBX-1; Inductance: 6.8uH; Current Rating: 910mA; Q @ Freq: -; Frequency - Self Resonant: -; Operating Temperature: -40C ~ 105C
footprint TDK VLS201612HBX-1
pins: 1, 2

## VLS201612HBX-100M-1
designator L?, comment 10uH
FIXED IND 10UH 760MA 756 MOHM; Part Number: VLS201612HBX-100M-1; Manufacturer: TDK Corporation; Type: Wirewound; Tolerance: 20%; Shielding: Shielded; DC Resistance (DCR): 756 mOhm Max; Value: 10uH; PartId: 9389; Supplier 1: Digi-Key; Supplier Part Number 1: 445-173009-2-ND; ComponentLink1Description: Datasheet; ComponentLink1URL: https://product.tdk.com/info/en/catalog/datasheets/inductor_commercial_power_vls201612hbx-1_en.pdf; ComponentLink2Description: Digi-Key Listing; ComponentLink2URL: https://www.digikey.com/product-detail/en/VLS201612HBX-100M-1/445-173009-2-ND/5147047; Price: 0.258; Device Package: 0806 (2016 Metric); Series: VLS-HBX-1; Inductance: 10uH; Current Rating: 760mA; Q @ Freq: -; Frequency - Self Resonant: -; Operating Temperature: -40C ~ 105C
footprint TDK VLS201612HBX-1
pins: 1, 2

## VLS201612HBX-R24M-1
designator L?, comment 240nH
FIXED IND 240NH 5.65A 29 MOHM; Part Number: VLS201612HBX-R24M-1; Manufacturer: TDK Corporation; Type: Wirewound; Tolerance: 20%; Shielding: Shielded; DC Resistance (DCR): 29 mOhm Max; Value: 240nH; PartId: 9396; Supplier 1: Digi-Key; Supplier Part Number 1: 445-173016-2-ND; ComponentLink1Description: Datasheet; ComponentLink1URL: https://product.tdk.com/info/en/catalog/datasheets/inductor_commercial_power_vls201612hbx-1_en.pdf; ComponentLink2Description: Digi-Key Listing; ComponentLink2URL: https://www.digikey.com/product-detail/en/VLS201612HBX-R24M-1/445-173016-2-ND/5147054; Price: 0.258; Device Package: 0806 (2016 Metric); Series: VLS-HBX-1; Inductance: 240nH; Current Rating: 5.65A; Q @ Freq: -; Frequency - Self Resonant: -; Operating Temperature: -40C ~ 105C
footprint TDK VLS201612HBX-1
pins: 1, 2

## VLS201612HBX-R33M-1
designator L?, comment 330nH
FIXED IND 330NH 4.34A 35 MOHM; Part Number: VLS201612HBX-R33M-1; Manufacturer: TDK Corporation; Type: Wirewound; Tolerance: 20%; Shielding: Shielded; DC Resistance (DCR): 35 mOhm Max; Value: 330nH; PartId: 9397; Supplier 1: Digi-Key; Supplier Part Number 1: 445-173017-2-ND; ComponentLink1Description: Datasheet; ComponentLink1URL: https://product.tdk.com/info/en/catalog/datasheets/inductor_commercial_power_vls201612hbx-1_en.pdf; ComponentLink2Description: Digi-Key Listing; ComponentLink2URL: https://www.digikey.com/product-detail/en/VLS201612HBX-R33M-1/445-173017-2-ND/5147055; Price: 0.258; Device Package: 0806 (2016 Metric); Series: VLS-HBX-1; Inductance: 330nH; Current Rating: 4.34A; Q @ Freq: -; Frequency - Self Resonant: -; Operating Temperature: -40C ~ 105C
footprint TDK VLS201612HBX-1
pins: 1, 2

## VLS201612HBX-R47M-1
designator L?, comment 470nH
FIXED IND 470NH 3.2A 42 MOHM SMD; Part Number: VLS201612HBX-R47M-1; Manufacturer: TDK Corporation; Type: Wirewound; Tolerance: 20%; Shielding: Shielded; DC Resistance (DCR): 42 mOhm Max; Value: 470nH; PartId: 9398; Supplier 1: Digi-Key; Supplier Part Number 1: 445-173018-2-ND; ComponentLink1Description: Datasheet; ComponentLink1URL: https://product.tdk.com/info/en/catalog/datasheets/inductor_commercial_power_vls201612hbx-1_en.pdf; ComponentLink2Description: Digi-Key Listing; ComponentLink2URL: https://www.digikey.com/product-detail/en/VLS201612HBX-R47M-1/445-173018-2-ND/5147056; Price: 0.258; Device Package: 0806 (2016 Metric); Series: VLS-HBX-1; Inductance: 470nH; Current Rating: 3.2A; Q @ Freq: -; Frequency - Self Resonant: -; Operating Temperature: -40C ~ 105C
footprint TDK VLS201612HBX-1
pins: 1, 2

## VLS201612HBX-R68M-1
designator L?, comment 680nH
FIXED IND 680NH 2.77A 54 MOHM; Part Number: VLS201612HBX-R68M-1; Manufacturer: TDK Corporation; Type: Wirewound; Tolerance: 20%; Shielding: Shielded; DC Resistance (DCR): 54 mOhm Max; Value: 680nH; PartId: 9399; Supplier 1: Digi-Key; Supplier Part Number 1: 445-173019-2-ND; ComponentLink1Description: Datasheet; ComponentLink1URL: https://product.tdk.com/info/en/catalog/datasheets/inductor_commercial_power_vls201612hbx-1_en.pdf; ComponentLink2Description: Digi-Key Listing; ComponentLink2URL: https://www.digikey.com/product-detail/en/VLS201612HBX-R68M-1/445-173019-2-ND/5147057; Price: 0.258; Device Package: 0806 (2016 Metric); Series: VLS-HBX-1; Inductance: 680nH; Current Rating: 2.77A; Q @ Freq: -; Frequency - Self Resonant: -; Operating Temperature: -40C ~ 105C
footprint TDK VLS201612HBX-1
pins: 1, 2

## VLS252010CX-1R0M
designator L?, comment 1uH
FIXED IND 1UH 2.29A 65 MOHM SMD; Part Number: VLS252010CX-1R0M; Manufacturer: TDK Corporation; Type: Wirewound; Tolerance: 20%; Shielding: Shielded; DC Resistance (DCR): 65 mOhm Max; Value: 1uH; PartId: 9466; Supplier 1: Digi-Key; Supplier Part Number 1: 445-172969-2-ND; ComponentLink1Description: Datasheet; ComponentLink1URL: https://product.tdk.com/info/en/catalog/datasheets/inductor_commercial_power_vls252010cx_en.pdf; ComponentLink2Description: Digi-Key Listing; ComponentLink2URL: https://www.digikey.com/product-detail/en/VLS252010CX-1R0M/445-172969-2-ND/5169774; Price: 0.1785; Device Package: Nonstandard; Series: VLS-CX; Inductance: 1uH; Current Rating: 2.29A; Q @ Freq: -; Frequency - Self Resonant: -; Operating Temperature: -40C ~ 105C
footprint TDK VLS252010CX
pins: 1, 2

## VLS252010CX-1R5M
designator L?, comment 1.5uH
FIXED IND 1.5UH 1.9A 86 MOHM SMD; Part Number: VLS252010CX-1R5M; Manufacturer: TDK Corporation; Type: Wirewound; Tolerance: 20%; Shielding: Shielded; DC Resistance (DCR): 86 mOhm Max; Value: 1.5uH; PartId: 9478; Supplier 1: Digi-Key; Supplier Part Number 1: 445-172970-2-ND; ComponentLink1Description: Datasheet; ComponentLink1URL: https://product.tdk.com/info/en/catalog/datasheets/inductor_commercial_power_vls252010cx_en.pdf; ComponentLink2Description: Digi-Key Listing; ComponentLink2URL: https://www.digikey.com/product-detail/en/VLS252010CX-1R5M/445-172970-2-ND/5169775; Price: 0.1785; Device Package: Nonstandard; Series: VLS-CX; Inductance: 1.5uH; Current Rating: 1.9A; Q @ Freq: -; Frequency - Self Resonant: -; Operating Temperature: -40C ~ 105C
footprint TDK VLS252010CX
pins: 1, 2

## VLS252010CX-2R2M
designator L?, comment 2.2uH
FIXED IND 2.2UH 1.58A 126 MOHM; Part Number: VLS252010CX-2R2M; Manufacturer: TDK Corporation; Type: Wirewound; Tolerance: 20%; Shielding: Shielded; DC Resistance (DCR): 126 mOhm Max; Value: 2.2uH; PartId: 9484; Supplier 1: Digi-Key; Supplier Part Number 1: 445-172972-2-ND; ComponentLink1Description: Datasheet; ComponentLink1URL: https://product.tdk.com/info/en/catalog/datasheets/inductor_commercial_power_vls252010cx_en.pdf; ComponentLink2Description: Digi-Key Listing; ComponentLink2URL: https://www.digikey.com/product-detail/en/VLS252010CX-2R2M/445-172972-2-ND/5169777; Price: 0.1785; Device Package: Nonstandard; Series: VLS-CX; Inductance: 2.2uH; Current Rating: 1.58A; Q @ Freq: -; Frequency - Self Resonant: -; Operating Temperature: -40C ~ 105C
footprint TDK VLS252010CX
pins: 1, 2

## VLS252010CX-3R3M
designator L?, comment 3.3uH
FIXED IND 3.3UH 1.25A 186 MOHM; Part Number: VLS252010CX-3R3M; Manufacturer: TDK Corporation; Type: Wirewound; Tolerance: 20%; Shielding: Shielded; DC Resistance (DCR): 186 mOhm Max; Value: 3.3uH; PartId: 9487; Supplier 1: Digi-Key; Supplier Part Number 1: 445-172973-2-ND; ComponentLink1Description: Datasheet; ComponentLink1URL: https://product.tdk.com/info/en/catalog/datasheets/inductor_commercial_power_vls252010cx_en.pdf; ComponentLink2Description: Digi-Key Listing; ComponentLink2URL: https://www.digikey.com/product-detail/en/VLS252010CX-3R3M/445-172973-2-ND/5169778; Price: 0.1785; Device Package: Nonstandard; Series: VLS-CX; Inductance: 3.3uH; Current Rating: 1.25A; Q @ Freq: -; Frequency - Self Resonant: -; Operating Temperature: -40C ~ 105C
footprint TDK VLS252010CX
pins: 1, 2

## VLS252010CX-4R7M
designator L?, comment 4.7uH
FIXED IND 4.7UH 1.11A 235 MOHM; Part Number: VLS252010CX-4R7M; Manufacturer: TDK Corporation; Type: Wirewound; Tolerance: 20%; Shielding: Shielded; DC Resistance (DCR): 235 mOhm Max; Value: 4.7uH; PartId: 9490; Supplier 1: Digi-Key; Supplier Part Number 1: 445-172974-2-ND; ComponentLink1Description: Datasheet; ComponentLink1URL: https://product.tdk.com/info/en/catalog/datasheets/inductor_commercial_power_vls252010cx_en.pdf; ComponentLink2Description: Digi-Key Listing; ComponentLink2URL: https://www.digikey.com/product-detail/en/VLS252010CX-4R7M/445-172974-2-ND/5169779; Price: 0.1785; Device Package: Nonstandard; Series: VLS-CX; Inductance: 4.7uH; Current Rating: 1.11A; Q @ Freq: -; Frequency - Self Resonant: -; Operating Temperature: -40C ~ 105C
footprint TDK VLS252010CX
pins: 1, 2

## VLS252010CX-6R8M
designator L?, comment 6.8uH
FIXED IND 6.8UH 860MA 372 MOHM; Part Number: VLS252010CX-6R8M; Manufacturer: TDK Corporation; Type: Wirewound; Tolerance: 20%; Shielding: Shielded; DC Resistance (DCR): 372 mOhm Max; Value: 6.8uH; PartId: 9493; Supplier 1: Digi-Key; Supplier Part Number 1: 445-172975-2-ND; ComponentLink1Description: Datasheet; ComponentLink1URL: https://product.tdk.com/info/en/catalog/datasheets/inductor_commercial_power_vls252010cx_en.pdf; ComponentLink2Description: Digi-Key Listing; ComponentLink2URL: https://www.digikey.com/product-detail/en/VLS252010CX-6R8M/445-172975-2-ND/5169780; Price: 0.1785; Device Package: Nonstandard; Series: VLS-CX; Inductance: 6.8uH; Current Rating: 860mA; Q @ Freq: -; Frequency - Self Resonant: -; Operating Temperature: -40C ~ 105C
footprint TDK VLS252010CX
pins: 1, 2

## VLS252010CX-100M
designator L?, comment 10uH
FIXED IND 10UH 710MA 580 MOHM; Part Number: VLS252010CX-100M; Manufacturer: TDK Corporation; Type: Wirewound; Tolerance: 20%; Shielding: Shielded; DC Resistance (DCR): 580 mOhm Max; Value: 10uH; PartId: 9472; Supplier 1: Digi-Key; Supplier Part Number 1: 445-172967-2-ND; ComponentLink1Description: Datasheet; ComponentLink1URL: https://product.tdk.com/info/en/catalog/datasheets/inductor_commercial_power_vls252010cx_en.pdf; ComponentLink2Description: Digi-Key Listing; ComponentLink2URL: https://www.digikey.com/product-detail/en/VLS252010CX-100M/445-172967-2-ND/5169772; Price: 0.1785; Device Package: Nonstandard; Series: VLS-CX; Inductance: 10uH; Current Rating: 710mA; Q @ Freq: -; Frequency - Self Resonant: -; Operating Temperature: -40C ~ 105C
footprint TDK VLS252010CX
pins: 1, 2

## VLS252010CX-150M
designator L?, comment 15uH
FIXED IND 15UH 560MA 914 MOHM; Part Number: VLS252010CX-150M; Manufacturer: TDK Corporation; Type: Wirewound; Tolerance: 20%; Shielding: Shielded; DC Resistance (DCR): 914 mOhm Max; Value: 15uH; PartId: 9475; Supplier 1: Digi-Key; Supplier Part Number 1: 445-172968-2-ND; ComponentLink1Description: Datasheet; ComponentLink1URL: https://product.tdk.com/info/en/catalog/datasheets/inductor_commercial_power_vls252010cx_en.pdf; ComponentLink2Description: Digi-Key Listing; ComponentLink2URL: https://www.digikey.com/product-detail/en/VLS252010CX-150M/445-172968-2-ND/5169773; Price: 0.1785; Device Package: Nonstandard; Series: VLS-CX; Inductance: 15uH; Current Rating: 560mA; Q @ Freq: -; Frequency - Self Resonant: -; Operating Temperature: -40C ~ 105C
footprint TDK VLS252010CX
pins: 1, 2

## VLS252010CX-220M
designator L?, comment 22uH
FIXED IND 22UH 450MA 1.364 OHM; Part Number: VLS252010CX-220M; Manufacturer: TDK Corporation; Type: Wirewound; Tolerance: 20%; Shielding: Shielded; DC Resistance (DCR): 1.364 Ohm Max; Value: 22uH; PartId: 9481; Supplier 1: Digi-Key; Supplier Part Number 1: 445-172971-2-ND; ComponentLink1Description: Datasheet; ComponentLink1URL: https://product.tdk.com/info/en/catalog/datasheets/inductor_commercial_power_vls252010cx_en.pdf; ComponentLink2Description: Digi-Key Listing; ComponentLink2URL: https://www.digikey.com/product-detail/en/VLS252010CX-220M/445-172971-2-ND/5169776; Price: 0.1785; Device Package: Nonstandard; Series: VLS-CX; Inductance: 22uH; Current Rating: 450mA; Q @ Freq: -; Frequency - Self Resonant: -; Operating Temperature: -40C ~ 105C
footprint TDK VLS252010CX
pins: 1, 2

## VLS252010CX-R47M
designator L?, comment 470nH
FIXED IND 470NH 3.22A 38 MOHM; Part Number: VLS252010CX-R47M; Manufacturer: TDK Corporation; Type: Wirewound; Tolerance: 20%; Shielding: Shielded; DC Resistance (DCR): 38 mOhm Max; Value: 470nH; PartId: 9496; Supplier 1: Digi-Key; Supplier Part Number 1: 445-172976-2-ND; ComponentLink1Description: Datasheet; ComponentLink1URL: https://product.tdk.com/info/en/catalog/datasheets/inductor_commercial_power_vls252010cx_en.pdf; ComponentLink2Description: Digi-Key Listing; ComponentLink2URL: https://www.digikey.com/product-detail/en/VLS252010CX-R47M/445-172976-2-ND/5169781; Price: 0.1785; Device Package: Nonstandard; Series: VLS-CX; Inductance: 470nH; Current Rating: 3.22A; Q @ Freq: -; Frequency - Self Resonant: -; Operating Temperature: -40C ~ 105C
footprint TDK VLS252010CX
pins: 1, 2

## VLS252010CX-R68M
designator L?, comment 680nH
FIXED IND 680NH 2.62A 50 MOHM; Part Number: VLS252010CX-R68M; Manufacturer: TDK Corporation; Type: Wirewound; Tolerance: 20%; Shielding: Shielded; DC Resistance (DCR): 50 mOhm Max; Value: 680nH; PartId: 9499; Supplier 1: Digi-Key; Supplier Part Number 1: 445-172977-2-ND; ComponentLink1Description: Datasheet; ComponentLink1URL: https://product.tdk.com/info/en/catalog/datasheets/inductor_commercial_power_vls252010cx_en.pdf; ComponentLink2Description: Digi-Key Listing; ComponentLink2URL: https://www.digikey.com/product-detail/en/VLS252010CX-R68M/445-172977-2-ND/5169782; Price: 0.1785; Device Package: Nonstandard; Series: VLS-CX; Inductance: 680nH; Current Rating: 2.62A; Q @ Freq: -; Frequency - Self Resonant: -; Operating Temperature: -40C ~ 105C
footprint TDK VLS252010CX
pins: 1, 2

## VLS252010HBX-1R0M-1
designator L?, comment 1uH
FIXED IND 1UH 2.55A 65 MOHM SMD; Part Number: VLS252010HBX-1R0M-1; Manufacturer: TDK Corporation; Type: Wirewound; Tolerance: 20%; Shielding: Shielded; DC Resistance (DCR): 65 mOhm Max; Value: 1uH; PartId: 9523; Supplier 1: Digi-Key; Supplier Part Number 1: 445-172397-2-ND; ComponentLink1Description: Datasheet; ComponentLink1URL: https://product.tdk.com/info/en/catalog/datasheets/inductor_commercial_power_vls252010hbx-1_en.pdf; ComponentLink2Description: Digi-Key Listing; ComponentLink2URL: https://www.digikey.com/product-detail/en/VLS252010HBX-1R0M-1/445-172397-2-ND/4918064; Price: 0.2448; Device Package: 1008 (2520 Metric); Series: VLS-HBX-1; Inductance: 1uH; Current Rating: 2.55A; Q @ Freq: -; Frequency - Self Resonant: -; Operating Temperature: -40C ~ 105C
footprint TDK VLS252010HBX-1
pins: 1, 2

## VLS252010HBX-1R5M-1
designator L?, comment 1.5uH
FIXED IND 1.5UH 2.02A 94 MOHM; Part Number: VLS252010HBX-1R5M-1; Manufacturer: TDK Corporation; Type: Wirewound; Tolerance: 20%; Shielding: Shielded; DC Resistance (DCR): 94 mOhm Max; Value: 1.5uH; PartId: 9526; Supplier 1: Digi-Key; Supplier Part Number 1: 445-172398-2-ND; ComponentLink1Description: Datasheet; ComponentLink1URL: https://product.tdk.com/info/en/catalog/datasheets/inductor_commercial_power_vls252010hbx-1_en.pdf; ComponentLink2Description: Digi-Key Listing; ComponentLink2URL: https://www.digikey.com/product-detail/en/VLS252010HBX-1R5M-1/445-172398-2-ND/4918065; Price: 0.2448; Device Package: 1008 (2520 Metric); Series: VLS-HBX-1; Inductance: 1.5uH; Current Rating: 2.02A; Q @ Freq: -; Frequency - Self Resonant: -; Operating Temperature: -40C ~ 105C
footprint TDK VLS252010HBX-1
pins: 1, 2

## VLS252010HBX-2R2M-1
designator L?, comment 2.2uH
FIXED IND 2.2UH 1.76A 120 MOHM; Part Number: VLS252010HBX-2R2M-1; Manufacturer: TDK Corporation; Type: Wirewound; Tolerance: 20%; Shielding: Shielded; DC Resistance (DCR): 120 mOhm Max; Value: 2.2uH; PartId: 9529; Supplier 1: Digi-Key; Supplier Part Number 1: 445-172399-2-ND; ComponentLink1Description: Datasheet; ComponentLink1URL: https://product.tdk.com/info/en/catalog/datasheets/inductor_commercial_power_vls252010hbx-1_en.pdf; ComponentLink2Description: Digi-Key Listing; ComponentLink2URL: https://www.digikey.com/product-detail/en/VLS252010HBX-2R2M-1/445-172399-2-ND/4918066; Price: 0.2448; Device Package: 1008 (2520 Metric); Series: VLS-HBX-1; Inductance: 2.2uH; Current Rating: 1.76A; Q @ Freq: -; Frequency - Self Resonant: -; Operating Temperature: -40C ~ 105C
footprint TDK VLS252010HBX-1
pins: 1, 2

## VLS252010HBX-3R3M-1
designator L?, comment 3.3uH
FIXED IND 3.3UH 1.6A 178 MOHM; Part Number: VLS252010HBX-3R3M-1; Manufacturer: TDK Corporation; Type: Wirewound; Tolerance: 20%; Shielding: Shielded; DC Resistance (DCR): 178 mOhm Max; Value: 3.3uH; PartId: 9541; Supplier 1: Digi-Key; Supplier Part Number 1: 445-173021-2-ND; ComponentLink1Description: Datasheet; ComponentLink1URL: https://product.tdk.com/info/en/catalog/datasheets/inductor_commercial_power_vls252010hbx-1_en.pdf; ComponentLink2Description: Digi-Key Listing; ComponentLink2URL: https://www.digikey.com/product-detail/en/VLS252010HBX-3R3M-1/445-173021-2-ND/5147059; Price: 0.2448; Device Package: 1008 (2520 Metric); Series: VLS-HBX-1; Inductance: 3.3uH; Current Rating: 1.6A; Q @ Freq: -; Frequency - Self Resonant: -; Operating Temperature: -40C ~ 105C
footprint TDK VLS252010HBX-1
pins: 1, 2